# EAGLE library part CS3310 (library digi-pots)
Cirrus Logic CS3310, Stereo Digital Volume Control
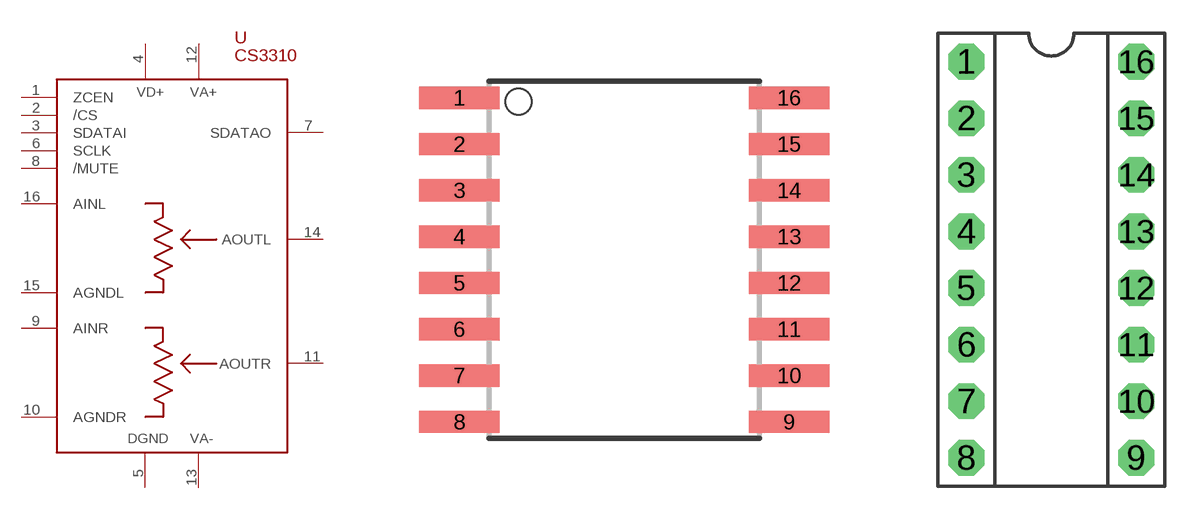
[diagram p0: symbol with the pads of SOIC-16W; footprints SOIC-16W, DIP-16]

Designator prefix -

## CS3310KS  [SOIC-16W]
1  ZCEN  in
2  /CS  in
3  SDATAI  in
4  VD+  pwr
5  DGND  pwr
6  SCLK  in
7  SDATAO  out
8  /MUTE  in
9  AINR  in
10  AGNDR  pwr
11  AOUTR  out
12  VA+  pwr
13  VA-  pwr
14  AOUTL  out
15  AGNDL  pwr
16  AINL  in

## CS3310KP  [DIP-16]
Pads as for SOIC-16W

## Footprint SOIC-16W (pad centres in mm)
SOIC-16, wide
smd 2.21 x 0.61: 1 -4.521,4.445; 2 -4.521,3.175; 3 -4.521,1.905; 4 -4.521,0.635; 5 -4.521,-0.635; 6 -4.521,-1.905; 7 -4.521,-3.175; 8 -4.521,-4.445; 9 4.521,-4.445; 10 4.521,-3.175; 11 4.521,-1.905; 12 4.521,-0.635; 13 4.521,0.635; 14 4.521,1.905; 15 4.521,3.175; 16 4.521,4.445

## Footprint DIP-16 (pad centres in mm)
DIP-16
drill 0.813 pad 1.6 octagon: 1 -3.81,8.89; 2 -3.81,6.35; 3 -3.81,3.81; 4 -3.81,1.27; 5 -3.81,-1.27; 6 -3.81,-3.81; 7 -3.81,-6.35; 8 -3.81,-8.89; 9 3.81,-8.89; 10 3.81,-6.35; 11 3.81,-3.81; 12 3.81,-1.27; 13 3.81,1.27; 14 3.81,3.81; 15 3.81,6.35; 16 3.81,8.89